# EAGLE library part TDK_PXD_15_5V (library TeamB_Task11)
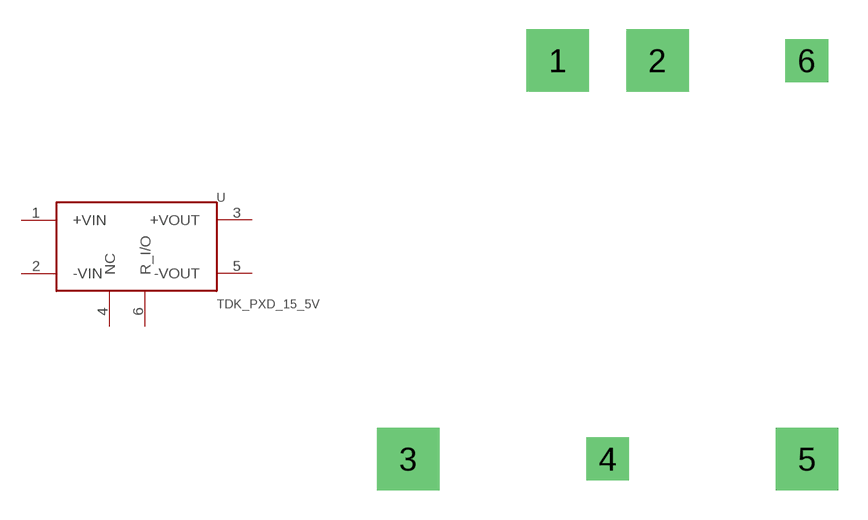
[diagram p0: symbol with the pads of TDK-PXD_15-5V; footprint TDK-PXD_15-5V]

Designator prefix -

## TDK_PXD_15_5V  [TDK-PXD_15-5V]
1  +VIN
2  -VIN
3  +VOUT
4  NC  nc
5  -VOUT
6  R_I/O

## Footprint TDK-PXD_15-5V (pad centres in mm)
drill 1.4 pad 3.175 square: 1 -2.54,10.16; 2 2.54,10.16; 3 -10.16,-10.16; 5 10.16,-10.16
drill 1.4 pad 2.184 square: 4 0,-10.16; 6 10.16,10.16